# Altium schematic symbol library 243-336_MP_Manette_ETU.SCHLIB: 23 symbols
Pins are listed as number, name and electrical type; pins without a type are passive.

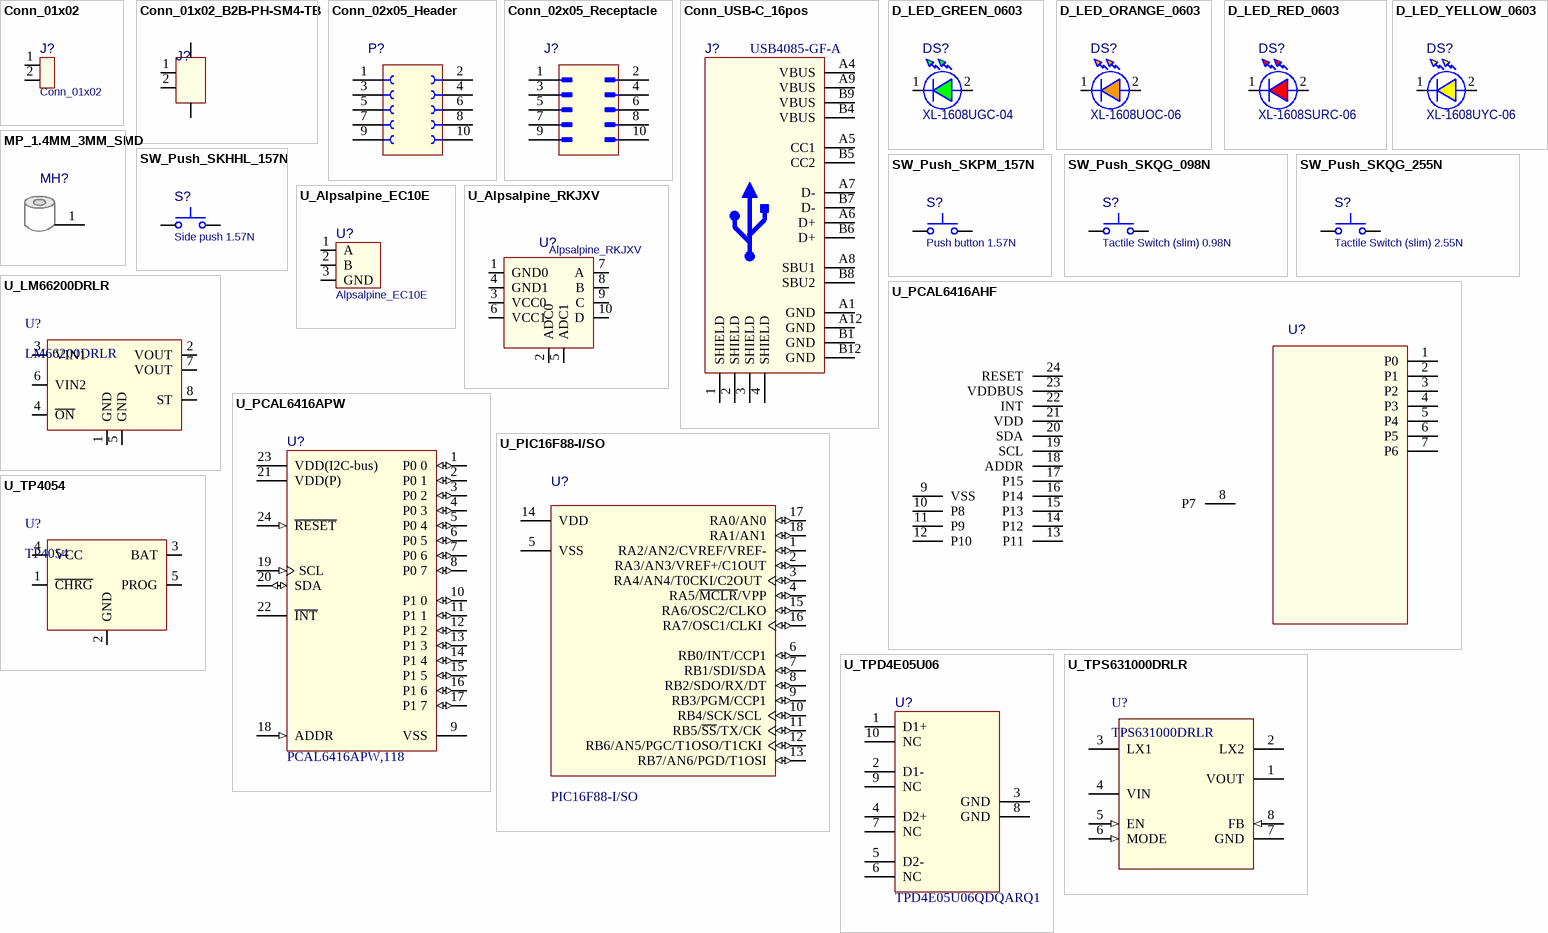
[diagram p0: symbols Conn_01x02 to U_TPS631000DRLR]

## Conn_01x02
designator J?, comment value Conn_01x02  (hidden comment: WAFER-PH2.0-2PWZ)
Conn. 2 pins JST PH2; Manufacturer 1: XUNPU; Manufacturer 2: JST; Manufacturer Part Number 1: WAFER-PH2.0-2PWZ; Manufacturer Part Number 2: S2B-PH-K-S; Mounting Technology: TH; Supplier 1: LCSC; Supplier 2: Mouser; Supplier Part Number 1: C5359610; Supplier Part Number 2: 306-S2BPHKSLFSNPP
footprint J_JST_PH_2_TH (2mm 2Pin, TH, Right Angle, Wire to board)
pins: 1 Pin_1, 2 Pin_2

## Conn_01x02_B2B-PH-SM4-TB
designator J?, comment B2B-PH-SM4-TB  (value not drawn)
Conn. 2 pins JST B2B SMT Straight 2mm; Value: Conn_01x02 SMT; CEGEP: KPTSO08; Manufacturer 1: JST; Manufacturer Part Number 1: B2B-PH-SM4-TB; Mounting Technology: SMT; Supplier 1: LCSC; Supplier 2: Mouser; Supplier Part Number 1: C160352; Supplier Part Number 2: 306-B2BPHSM4TBLFSN
footprint J_B2B-PH-SM4-TB_JST (CONN HEADER SMD 2POS 2MM STRAIGHT)
pins: 1 Pin_1, 2 Pin_2, S1, S2

## Conn_02x05_Header
designator P?, comment HC-PBB12NB(3.0)-10DP-0.5V-03  (value not drawn)
Connector Header 2x5pos, 0,5mm; Manufacturer 1: HCTL; Value: Conn_02x05; Manufacturer 2: Hirose; Manufacturer Part Number 1: HC-PBB12NB(3.0)-10DP-0.5V-03; Manufacturer Part Number 2: DF12NB(3.0)-10DP-0.5V(51); Mounting Technology: SMT; Supplier 1: LCSC; Supplier 2: Digikey; Supplier Part Number 1: C22359413; Supplier Part Number 2: 26-DF12NB(3.0)-10DP-0.5V(51)CT-ND
footprint P_CONN_HDR_2ROW_10POS_0MM5 (CONN HIROSE DF12NB)
pins: 1, 2, 3, 4, 5, 6, 7, 8, 9, 10

## Conn_02x05_Receptacle
designator J?, comment HC-PBB12NB(3.0)-10DS-0.5V-03  (value not drawn)
Connector Receptacle 2x5pos, 0,5mm; Manufacturer 1: HCTL; Value: Conn_02x05; CEGEP: KPTSO011; Manufacturer 2: Hirose; Manufacturer Part Number 1: HC-PBB12NB(3.0)-10DS-0.5V-03; Manufacturer Part Number 2: DF12NB(3.0)-10DS-0.5V(51); Mounting Technology: SMT; Supplier 1: LCSC; Supplier 2: Digikey; Supplier Part Number 1: C22359414; Supplier Part Number 2: 26-DF12NB(3.0)-10DS-0.5V(51)CT-ND
footprint J_CONN_HDR_2ROW_10POS_0MM5 (CONN HIROSE DF12NB)
pins: 1, 2, 3, 4, 5, 6, 7, 8, 9, 10

## Conn_USB-C_16pos
designator J?, comment USB4085-GF-A
CONN RCPT USB2.0 TYPE C RA - TH; Manufacturer 1: Global Connector Technology; Manufacturer Part Number 1: USB4085-GF-A; Mounting Technology: TH; Supplier 1: LCSC; Supplier 2: Digikey; Supplier Part Number 1: C7095263; Supplier Part Number 2: 2073-USB4085-GF-ACT-ND
footprint FP-USB4085-GF-A-MFG
pins: 1 SHIELD, 2 SHIELD, 3 SHIELD, 4 SHIELD, A1 GND, A4 VBUS, A5 CC1, A6 D+, A7 D-, A8 SBU1, A9 VBUS, A12 GND, B1 GND, B4 VBUS, B5 CC2, B6 D+, B7 D-, B8 SBU2, B9 VBUS, B12 GND

## D_LED_GREEN_0603
designator DS?, comment XL-1608UGC-04
LED Green Clear 40mcd 140deg; Manufacturer 1: XINGLIGHT; CEGEP: KLEDVC0603; Value: Green; Manufacturer 2: Wurth; Manufacturer Part Number 1: XL-1608UGC-04; Manufacturer Part Number 2: 150060VS75000; Mounting Technology: SMT; Supplier 1: LCSC; Supplier 2: Digikey; Supplier Part Number 1: C965804; Supplier Part Number 2: 732-4980-1-ND
footprint D_LED_0603 (Chip LED, 2-Leads, Body 1.6x0.8mm, IPC Medium Density)
pins: 1 K, 2 A

## D_LED_ORANGE_0603
designator DS?, comment XL-1608UOC-06
LED Orange Clear; Manufacturer 1: XINGLIGHT; CEGEP: KLEDOC0603; Value: Orange; Manufacturer 2: Wurth; Manufacturer Part Number 1: XL-1608UOC-06; Manufacturer Part Number 2: 150060AS75000; Mounting Technology: SMT; Supplier 1: LCSC; Supplier 2: Digikey; Supplier Part Number 1: C965800; Supplier Part Number 2: 732-150060AS75000CT-ND
footprint D_LED_0603 (Chip LED, 2-Leads, Body 1.6x0.8mm, IPC Medium Density)
pins: 1 K, 2 A

## D_LED_RED_0603
designator DS?, comment XL-1608SURC-06
LED Red Clear 60mcd 140deg; Manufacturer 1: XINGLIGHT; CEGEP: KLEDRC0603; Value: Red; Manufacturer 2: Wurth; Manufacturer Part Number 1: XL-1608SURC-06; Manufacturer Part Number 2: 150060SS75000; Mounting Technology: SMT; Supplier 1: LCSC; Supplier 2: Digikey; Supplier Part Number 1: C965799; Supplier Part Number 2: 732-4979-1-ND
footprint D_LED_0603 (Chip LED, 2-Leads, Body 1.6x0.8mm, IPC Medium Density)
pins: 1 K, 2 A

## D_LED_YELLOW_0603
designator DS?, comment XL-1608UYC-06
LED Yellow Clear; Manufacturer 1: XINGLIGHT; CEGEP: KLEDJC0603; Value: Yellow; Manufacturer 2: Wurth; Manufacturer Part Number 1: XL-1608UYC-06; Manufacturer Part Number 2: 150060YS75000; Mounting Technology: SMT; Supplier 1: LCSC; Supplier 2: Digikey; Supplier Part Number 1: C965802; Supplier Part Number 2: 732-4981-1-ND
footprint D_LED_0603 (Chip LED, 2-Leads, Body 1.6x0.8mm, IPC Medium Density)
pins: 1 K, 2 A

## MP_1.4MM_3MM_SMD
designator MH?, comment SMTSO1430MTJ  (value not drawn)
Mounting Standoff Threaded 1.4mm, stack height 3mm, SMD; Manufacturer 1: Sinhoo; Manufacturer Part Number 1: SMTSO1430MTJ; Mounting Technology: SMT; Supplier 1: LCSC; Supplier Part Number 1: C2915624
footprint MP_Standoff_M1.4x3mm_SMT (Spacer SMT 3mm M1.4)
pins: 1 (power)

## SW_Push_SKHHL_157N
designator S?, comment value Side push 1.57N  (hidden comment: SKHHLNA010)
Side push 6.0mm Square Type (Snap-in) 1.57N l=3.85mm; Manufacturer 1: ALPSALPINE; Manufacturer Part Number 1: SKHHLNA010; Mounting Technology: TH; Supplier 1: LCSC; Supplier 2: DigiKey; Supplier Part Number 1: C125031; Supplier Part Number 2: 4809-SKHHLNA010-ND
footprint S_Alpsalpine_SKHHL
pins: 1, 2

## SW_Push_SKPM_157N
designator S?, comment value Push button 1.57N  (hidden comment: SKPMAME010)
Push button 1.57N; Manufacturer 1: ALPSALPINE; Manufacturer Part Number 1: SKPMAME010; Mounting Technology: SMT; Supplier 1: LCSC; Supplier 2: DigiKey; Supplier Part Number 1: C115348; Supplier Part Number 2: 4809-SKPMAME010CT-ND
footprint S_Alpsalpine_SKPM
pins: 1, 2

## SW_Push_SKQG_098N
designator S?, comment value Tactile Switch (slim) 0.98N  (hidden comment: SKQGAFE010)
Tactile Switch (dome) 0.98N; Manufacturer 1: ALPSALPINE; Manufacturer Part Number 1: SKQGAFE010; Mounting Technology: SMT; Supplier 1: LCSC; Supplier 2: DigiKey; Supplier Part Number 1: C202424; Supplier Part Number 2: 4809-SKQGAFE010CT-ND
footprint S_Alpsalpine_SKQG
pins: 1, 2

## SW_Push_SKQG_255N
designator S?, comment value Tactile Switch (slim) 2.55N  (hidden comment: SKQGADE010)
Tactile Switch (dome) 2.55N; Manufacturer 1: ALPSALPINE; Manufacturer Part Number 1: SKQGADE010; Mounting Technology: SMT; Supplier 1: LCSC; Supplier 2: Digikey; Supplier Part Number 1: C116647; Supplier Part Number 2: 4809-SKQGADE010CT-ND
footprint S_Alpsalpine_SKQG
pins: 1, 2

## U_Alpsalpine_EC10E
designator U?, comment value Alpsalpine_EC10E  (hidden comment: EC10E1220503)
Rotary Encoder TH; Manufacturer 1: ALPSALPINE; Manufacturer Part Number 1: EC10E1220503; Mounting Technology: TH; Supplier 1: LCSC; Supplier 2: DigiKey; Supplier Part Number 1: C110291; Supplier Part Number 2: 4809-EC10E1220503-ND
footprint U_Alpsalpine_EC10E (Rotary Encoder TH)
pins: 1 A, 2 B, 3 GND

## U_Alpsalpine_RKJXV
designator U?, comment value Alpsalpine_RKJXV  (hidden comment: RKJXV122400R)
ThumbStick; Manufacturer 1: ALPSALPINE; Manufacturer Part Number 1: RKJXV122400R; Mounting Technology: TH; Supplier 1: LCSC; Supplier 2: Mouser; Supplier Part Number 1: C918854; Supplier Part Number 2: 688-RKJXV122400R
footprint U_Alpsalpine_RKJXV122400R (Thumb Stick TH)
pins: 1 GND0, 2 ADC0, 3 VCC0, 4 GND1, 5 ADC1, 6 VCC1, 7 A, 8 B, 9 C, 10 D

## U_LM66200DRLR
designator U?, comment LM66200DRLR
ORing Controller N-Channel 2:1 SOT-583; Manufacturer 1: Texas Instruments; CEGEP: KPTSO05; Manufacturer Part Number 1: LM66200DRLR; Supplier 1: LCSC; Supplier 2: Digikey; Supplier Part Number 1: C3235556; Supplier Part Number 2: 296-LM66200DRLRCT-ND; Mounting Technology: SMT
footprint U_SOT583_50P210X120X60-8 (SOT-583)
pins: 1 GND (power), 2 VOUT (power), 3 VIN1 (power), 4 ~{ON}, 5 GND (power), 6 VIN2 (power), 7 VOUT (power), 8 ST (oe)

## U_PCAL6416AHF
designator U?, comment TCAL6416RTWR  (value not drawn)
IC I/O EXPANDER 16BIT  QFN24; Manufacturer 1: Texas Instrument; Manufacturer 2: NXP; Manufacturer Part Number 1: TCAL6416RTWR; Manufacturer Part Number 2: PCAL6416AHF,128; Mounting Technology: SMT; Value: TCAL6416RTWR; Supplier 1: LCSC; Supplier 2: LCSC; Supplier 3: Digikey; Supplier Part Number 1: C5956642; Supplier Part Number 2: C2652287; Supplier Part Number 3: 568-9946-1-ND
footprint U_QFN50P400X400X90-24L
pins: 1 P0, 2 P1, 3 P2, 4 P3, 5 P4, 6 P5, 7 P6, 8 P7, 9 VSS, 10 P8, 11 P9, 12 P10, 13 P11, 14 P12, 15 P13, 16 P14, 17 P15, 18 ADDR, 19 SCL, 20 SDA, 21 VDD, 22 INT, 23 VDDBUS, 24 RESET

## U_PCAL6416APW
designator U?, comment PCAL6416APW,118
IC I/O EXPANDER 16BIT 24TSSOP; Manufacturer Part Number 1: TCAL6416PWR; Manufacturer 1: Texas Instruments; Manufacturer 2: NXP Semiconductors; Manufacturer Part Number 2: PCAL6416APW,118; Mounting Technology: SMT; Supplier 1: LCSC; Supplier 2: LCSC; Supplier 3: Digikey; Supplier Part Number 1: C20345827; Supplier Part Number 2: C2652299; Supplier Part Number 3: 568-9922-1-ND
footprint U_TSSOP24_SOT355-1-IPC_B
pins: 1 P0 0 (io), 2 P0 1 (io), 3 P0 2 (io), 4 P0 3 (io), 5 P0 4 (io), 6 P0 5 (io), 7 P0 6 (io), 8 P0 7 (io), 9 VSS (power), 10 P1 0 (io), 11 P1 1 (io), 12 P1 2 (io), 13 P1 3 (io), 14 P1 4 (io), 15 P1 5 (io), 16 P1 6 (io), 17 P1 7 (io), 18 ADDR (in), 19 SCL (in), 20 SDA (io), 21 VDD(P) (power), 22 ~{INT} (oc), 23 VDD(I2C-bus) (power), 24 ~{RESET} (in)

## U_PIC16F88-I/SO
designator U?, comment PIC16F88-I/SO
Microcontroller, 10-Bit A/D, 4K FLASH, 368 Bytes RAM, 18-Pin SOIC, Standard VDD Range, Industrial Temperature; Manufacturer 1: Microchip; Manufacturer Part Number 1: PIC16F88-I/SO; Mounting Technology: SMT; Supplier 1: LCSC; Supplier 2: Digikey; Supplier Part Number 1: C642683; Supplier Part Number 2: PIC16F88-I/SO-ND
footprint U_SOIC-SO18_N
pins: 1 RA2/AN2/CVREF/VREF- (io), 2 RA3/AN3/VREF+/C1OUT (io), 3 RA4/AN4/T0CKI/C2OUT (io), 4 RA5/~{MCLR}/VPP (io), 5 VSS (power), 6 RB0/INT/CCP1 (io), 7 RB1/SDI/SDA (io), 8 RB2/SDO/RX/DT (io), 9 RB3/PGM/CCP1 (io), 10 RB4/SCK/SCL (io), 11 RB5/~{SS}/TX/CK (io), 12 RB6/AN5/PGC/T1OSO/T1CKI (io), 13 RB7/AN6/PGD/T1OSI (io), 14 VDD (power), 15 RA6/OSC2/CLKO (io), 16 RA7/OSC1/CLKI (io), 17 RA0/AN0 (io), 18 RA1/AN1 (io)

## U_TP4054
designator U?, comment TP4054
Battery charger Li-ion Linear 1-cell; Manufacturer 1: HXY MOSFET; CEGEP: KPTSO06; Manufacturer 2: Suntek; Manufacturer Part Number 2: SK4054S5-42; Manufacturer Part Number 1: TP4054; Supplier 1: LCSC; Supplier 2: Digikey; Supplier Part Number 1: C668215; Supplier Part Number 2: 4518-TP4054CT-ND; Mounting Technology: SMT
footprint U_SOT23-5N(MO-178)
pins: 1 ~{CHRG}, 2 GND (power), 3 BAT (power), 4 VCC (power), 5 PROG

## U_TPD4E05U06
designator U?, comment TPD4E05U06QDQARQ1
TVS DIODE 5.5V 14V 10USON; Manufacturer 1: Texas Instruments; Manufacturer 2: ElecSuper; Manufacturer Part Number 2: TPD4E05U06QDQARQ1-ES; Manufacturer Part Number 1: TPD4E05U06QDQARQ1; Mounting Technology: SMT; Supplier 1: LCSC; Supplier 2: Digikey; Supplier Part Number 1: C81353; Supplier Part Number 2: 296-40696-1-ND
footprint U_USON50P250X100-10
pins: 1 D1+, 2 D1-, 3 GND (power), 4 D2+, 5 D2-, 6 NC, 7 NC, 8 GND (power), 9 NC, 10 NC

## U_TPS631000DRLR
designator U?, comment TPS631000DRLR
buck-boost converter 1.5-A output current,; Manufacturer 1: Texas Instruments; CEGEP: KPTSO09; Manufacturer Part Number 1: TPS631000DRLR; Supplier 1: LCSC; Supplier 2: Digikey; Supplier Part Number 1: C5219190; Supplier Part Number 2: 296-TPS631000DRLRCT-ND; Mounting Technology: SMT
footprint U_SOT583_50P210X120X60-8 (SOT-583)
pins: 1 VOUT (power), 2 LX2 (power), 3 LX1 (power), 4 VIN (power), 5 EN (in), 6 MODE (in), 7 GND (power), 8 FB (in)